# EAGLE library part IL300 (library eko-parts)
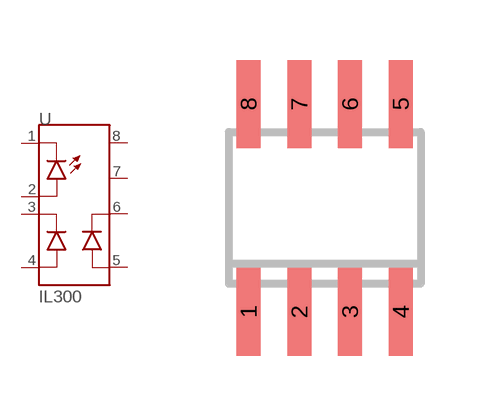
[diagram p6: symbol with the pads of SO8; footprint SO8]

Designator prefix U

## IL300  [SO8]
1  C_LED  pas
2  A_LED  pas
3  C_FB  pas
4  A_FB  pas
5  A_OUT  pas
6  C_OUT  pas
7  PIN7  nc
8  PIN8  nc

## Footprint SO8 (pad centres in mm)
smd 0.6 x 2.2: 1 -1.905,-2.6; 2 -0.635,-2.6; 3 0.635,-2.6; 4 1.905,-2.6; 5 1.905,2.6; 6 0.635,2.6; 7 -0.635,2.6; 8 -1.905,2.6